# Altium integrated library TI Power Management Step-Down Regulator.IntLib: 531 symbols (part 12 of 32)
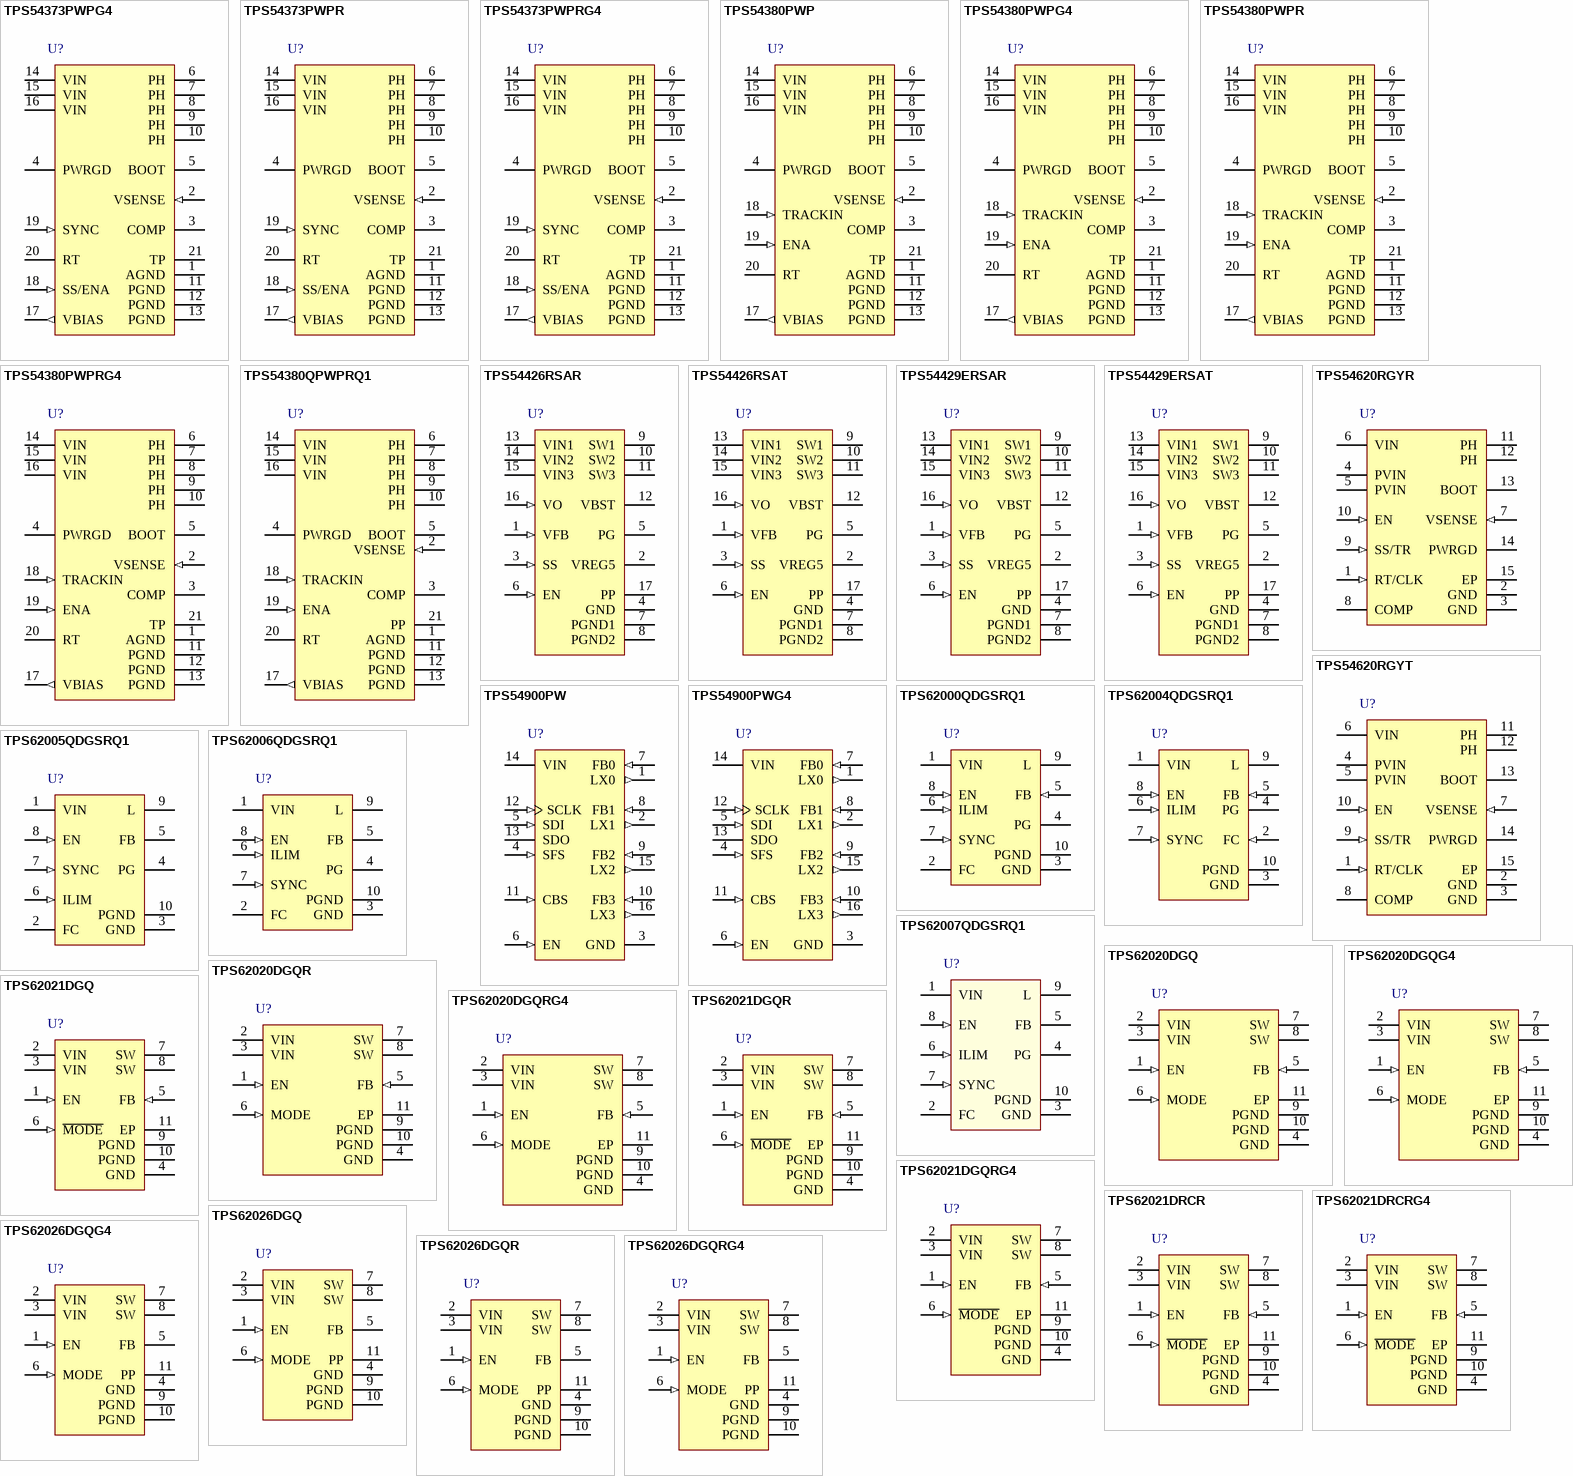
[diagram p29: symbols TPS54373PWPG4 to TPS62026DGQRG4]

## TPS54380QPWPRQ1
designator U?
Buck Step Down Regulator with 3 to 6 V Input and 0.9 to 4.5 V Output, -40 to 125 degC, 20-Pin HTSSOP (PWP), Green (RoHS & no Sb/Br); PartNumber: TPS54380QPWPRQ1; Manufacturer: Texas Instruments; Duty Cycle(Max)(%): 90; Iout(Max)(A): 3; Iq(Typ)(mA): 6.2; Rating: Automotive; Regulated Outputs(#): 1; SubFamily: Step-Down Regulator; Switch Current Limit(Typ)(A): 4; Synchronous Rectification: TRUE; Vin(Max)(V): 6; Vout(Max)(V): 4.5; Vout(Min)(V): 0.9; DatasheetVersion: SLVS836; PackageVersion: revI, May-2011; PackageReference: PWP20-3005X2005TP; PackageDescription: 20-Pin PowerPAD Plastic Small Outline 6.5 x 4.4 mm Body ,0.65 mm Pitch, Exposed Pad; Supplier 1: Digi-Key; Supplier Part Number 1: 296-23865-2-ND; Supplier 2: Digi-Key; Supplier Part Number 2: 296-23865-1-ND; Supplier 3: Digi-Key; Supplier Part Number 3: 296-23865-6-ND; Supplier 4: Mouser; Supplier Part Number 4: 595-TPS54380QPWPRQ1; Eco-Plan: Green (RoHS & no Sb/Br); Topology: Buck; Vin(Min)(V): 3; Mounting Technology: Surface Mount; Code_JEDEC: MO-153; ComponentLink1Description: Datasheet; ComponentLink1URL: http://www.ti.com/general/docs/lit/getliterature.tsp?genericPartNumber=TPS54380-Q1&fileType=pdf; ComponentLink2Description: URL Link1; ComponentLink2URL: Samples URL:http://www.ti.com/product/tps54611#samples
footprint PWP20-3005X2005TP_N (TSOP, 20-Leads, Body 6.5x4.4mm, Pitch 0.65mm, Thermal Pad 3.7x2.4 mm, IPC Medium Density)
footprint PWP20-3005X2005TP_L (TSOP, 20-Leads, Body 6.5x4.4mm, Pitch 0.65mm, Thermal Pad 3.7x2.4 mm, IPC High Density)
footprint PWP20-3005X2005TP_M (TSOP, 20-Leads, Body 6.5x4.4mm, Pitch 0.65mm, Thermal Pad 3.7x2.4 mm, IPC Low Density)
pins: 1 AGND (power) "Analog ground. Return for compensation network/output divider, slow-start capacitor, VBIAS capacitor, RT resistor. Connect PowerPAD to AGND.", 2 VSENSE (in) "Error amplifier inverting input. Connect to output voltage through compensation network/output divider.", 3 COMP "Error amplifier output. Connect frequency compensation network from COMP to VSENSE", 4 PWRGD (oc) "Power-good open-drain output. High when VSENSE >= 90% Vref, otherwise PWRGD is low.", 5 BOOT "Bootstrap output. 0.022-uF to 0.1-uF low-ESR capacitor connected from BOOT to PH generates floating drive for the high-side FET driver", 6 PH (power) "Phase output. Junction of the internal high-side and low-side power MOSFETs and output inductor", 7 PH (power) "Phase output. Junction of the internal high-side and low-side power MOSFETs and output inductor", 8 PH (power) "Phase output. Junction of the internal high-side and low-side power MOSFETs and output inductor", 9 PH (power) "Phase output. Junction of the internal high-side and low-side power MOSFETs and output inductor", 10 PH (power) "Phase output. Junction of the internal high-side and low-side power MOSFETs and output inductor", 11 PGND (power) "Power ground. High current return for the low-side driver and power MOSFET. Connect PGND with large copper are as to the input and output supply returns, and negative terminals of the input and output capacitors. A (See Datasheet)", 12 PGND (power) "Power ground. High current return for the low-side driver and power MOSFET. Connect PGND with large copper are as to the input and output supply returns, and negative terminals of the input and output capacitors. A (See Datasheet)", 13 PGND (power) "Power ground. High current return for the low-side driver and power MOSFET. Connect PGND with large copper are as to the input and output supply returns, and negative terminals of the input and output capacitors. A (See Datasheet)", 14 VIN (power) "Input supply for the power MOSFET switches and internal bias regulator. Bypass VIN pins to PGND pins close to device package with a high quality, low-ESR 10-uF ceramic capacitor.", 15 VIN (power) "Input supply for the power MOSFET switches and internal bias regulator. Bypass VIN pins to PGND pins close to device package with a high quality, low-ESR 10-uF ceramic capacitor.", 16 VIN (power) "Input supply for the power MOSFET switches and internal bias regulator. Bypass VIN pins to PGND pins close to device package with a high quality, low-ESR 10-uF ceramic capacitor.", 17 VBIAS (out) "Internal bias regulator output. Supplies regulated voltage to internal circuitry. Bypass VBIAS pin to AGND pin with a high quality, low-ESR 0.1-uF to 1.0-uF ceramic capacitor", 18 TRACKIN (in) "External reference input. High impedance input to internal reference/multiplexer and error amplifier circuits.", 19 ENA (in) "Enable input. Logic high enables oscillator, PWM control and MOSFET driver circuits. Logic low disables operation and places device in low quiescent current state.", 20 RT "Frequency setting resistor input. Connect a resistor from RT to AGND to set the switching frequency", 21 PP (power) "Exposed Thermal Pad"

## TPS54426RSAR
designator U?
Buck Step Down Regulator with 4.5 to 18 V Input and 0.76 to 5.5 V Output, -40 to 85 degC, 16-Pin QFN (RSA), Green (RoHS & no Sb/Br); PartNumber: TPS54426RSAR; Manufacturer: Texas Instruments; Duty Cycle(Max)(%): 90; Iout(Max)(A): 4; Iq(Typ)(mA): 0.85; Rating: Catalog; Regulated Outputs(#): 1; SubFamily: Step-Down Regulator; Switch Current Limit(Typ)(A): 4.5; Synchronous Rectification: TRUE; Vin(Max)(V): 18; Vout(Max)(V): 5.5; Vout(Min)(V): 0.76; DatasheetVersion: SLVSAD6C; PackageVersion: revD, Jun-2011; PackageReference: RSA16-2700X2700TP; PackageDescription: 16-Pin Plastic Quad Flatpack No-Lead 0.65 mm Pitch; Supplier 1: Digi-Key; Supplier Part Number 1: 296-28111-2-ND; Supplier 2: Digi-Key; Supplier Part Number 2: 296-28111-1-ND; Supplier 3: Digi-Key; Supplier Part Number 3: 296-28111-6-ND; Supplier 4: Newark; Supplier Part Number 4: 24T4824; Supplier 5: Mouser; Supplier Part Number 5: 595-TPS54426RSAR; Eco-Plan: Green (RoHS & no Sb/Br); Topology: Buck; Vin(Min)(V): 4.5; Mounting Technology: Surface Mount; Code_JEDEC: MO-220; ComponentLink1Description: Datasheet; ComponentLink1URL: http://www.ti.com/general/docs/lit/getliterature.tsp?genericPartNumber=TPS54426&fileType=pdf; ComponentLink2Description: URL Link1; ComponentLink2URL: Samples URL:http://www.ti.com/product/tps54426#samples
footprint RSA16-2700X2700TP (QFN, 16-Leads, Body 4x4mm, Pitch 0.65mm, Thermal Pad 2.7x2.7mm, TI Recommended)
pins: 1 VFB (in) "Converter feedback input. Connect to output voltage with feedback resistor divider.", 2 VREG5 (power) "5.5 V power supply output. A capacitor (typical 1 µF) should be connected to GND. VREG5 is not active when EN is low.", 3 SS (in) "Soft-start control. A external capacitor should be connected to GND.", 4 GND (power) "Signal ground pin.", 5 PG (oc) "Open drain power good output.", 6 EN (in) "Enable control input. EN is active high and must be pulled up to enable the device.", 7 PGND1 (power) "Ground returns for low-side MOSFET. Also serve as inputs of current comparators. Connect PGND2 PGND and GND strongly together near the IC.", 8 PGND2 (power) "Ground returns for low-side MOSFET. Also serve as inputs of current comparators. Connect PGND2 PGND and GND strongly together near the IC.", 9 SW1 (power) "Switch node connection between high-side NFET and low-side NFET. Also serve as inputs to current comparators.", 10 SW2 (power) "Switch node connection between high-side NFET and low-side NFET. Also serve as inputs to current comparators.", 11 SW3 (power) "Switch node connection between high-side NFET and low-side NFET. Also serve as inputs to current comparators.", 12 VBST "Supply input for high-side NFET gate driver (boost terminal). Connect capacitor from this pin to respective SW1, SW2 terminals. An internal PN diode is connected between VREG5 to VBST pin.", 13 VIN1 (power) "Power input and connected to high side NFET drain. Supply input for 5-V internal linear regulator for the control circuitry.", 14 VIN2 (power) "Power input and connected to high side NFET drain. Supply input for 5-V internal linear regulator for the control circuitry.", 15 VIN3 (power) "Power input and connected to high side NFET drain. Supply input for 5-V internal linear regulator for the control circuitry.", 16 VO (in) "Connect to output of converter. This terminal is used for On-Time Adjustment.", 17 PP (power) "Thermal pad of the package. Must be soldered to achieve appropriate dissipation. Should be connected to PGND."

## TPS54426RSAT
designator U?
Buck Step Down Regulator with 4.5 to 18 V Input and 0.76 to 5.5 V Output, -40 to 85 degC, 16-Pin QFN (RSA), Green (RoHS & no Sb/Br); PartNumber: TPS54426RSAT; Manufacturer: Texas Instruments; Duty Cycle(Max)(%): 90; Iout(Max)(A): 6; Iq(Typ)(mA): 0.85; Rating: Catalog; Regulated Outputs(#): 1; SubFamily: Step-Down Regulator; Switch Current Limit(Typ)(A): 4.5; Synchronous Rectification: TRUE; Vin(Max)(V): 18; Vout(Max)(V): 5.5; Vout(Min)(V): 0.76; DatasheetVersion: SLVSAD6C; PackageVersion: revD, Jun-2011; PackageReference: RSA16-2700X2700TP; PackageDescription: 16-Pin Plastic Quad Flatpack No-Lead 0.65 mm Pitch; Supplier 1: Digi-Key; Supplier Part Number 1: TPS54426RSAT-ND; Supplier 2: Mouser; Supplier Part Number 2: 595-TPS54426RSAT; Eco-Plan: Green (RoHS & no Sb/Br); Topology: Buck; Vin(Min)(V): 4.5; Mounting Technology: Surface Mount; Code_JEDEC: MO-220; ComponentLink1Description: Datasheet; ComponentLink1URL: http://www.ti.com/general/docs/lit/getliterature.tsp?genericPartNumber=TPS54426&fileType=pdf; ComponentLink2Description: URL Link1; ComponentLink2URL: Samples URL:http://www.ti.com/product/tps54611#samples
footprint RSA16-2700X2700TP (QFN, 16-Leads, Body 4x4mm, Pitch 0.65mm, Thermal Pad 2.7x2.7mm, TI Recommended)
pins: 1 VFB (in) "Converter feedback input. Connect to output voltage with feedback resistor divider.", 2 VREG5 (power) "5.5 V power supply output. A capacitor (typical 1 µF) should be connected to GND. VREG5 is not active when EN is low.", 3 SS (in) "Soft-start control. A external capacitor should be connected to GND.", 4 GND (power) "Signal ground pin.", 5 PG (oc) "Open drain power good output.", 6 EN (in) "Enable control input. EN is active high and must be pulled up to enable the device.", 7 PGND1 (power) "Ground returns for low-side MOSFET. Also serve as inputs of current comparators. Connect PGND2 PGND and GND strongly together near the IC.", 8 PGND2 (power) "Ground returns for low-side MOSFET. Also serve as inputs of current comparators. Connect PGND2 PGND and GND strongly together near the IC.", 9 SW1 (power) "Switch node connection between high-side NFET and low-side NFET. Also serve as inputs to current comparators.", 10 SW2 (power) "Switch node connection between high-side NFET and low-side NFET. Also serve as inputs to current comparators.", 11 SW3 (power) "Switch node connection between high-side NFET and low-side NFET. Also serve as inputs to current comparators.", 12 VBST "Supply input for high-side NFET gate driver (boost terminal). Connect capacitor from this pin to respective SW1, SW2 terminals. An internal PN diode is connected between VREG5 to VBST pin.", 13 VIN1 (power) "Power input and connected to high side NFET drain. Supply input for 5-V internal linear regulator for the control circuitry.", 14 VIN2 (power) "Power input and connected to high side NFET drain. Supply input for 5-V internal linear regulator for the control circuitry.", 15 VIN3 (power) "Power input and connected to high side NFET drain. Supply input for 5-V internal linear regulator for the control circuitry.", 16 VO (in) "Connect to output of converter. This terminal is used for On-Time Adjustment.", 17 PP (power) "Thermal pad of the package. Must be soldered to achieve appropriate dissipation. Should be connected to PGND."

## TPS54429ERSAR
designator U?
Buck Step Down Regulator with 7 to 18 V Input and 0.76 to 5.5 V Output, -20 to 85 degC, 16-Pin QFN (RSA), Green (RoHS & no Sb/Br); PartNumber: TPS54429ERSAR; Manufacturer: Texas Instruments; Duty Cycle(Max)(%): 98; Iout(Max)(A): 4.5; Iq(Typ)(mA): 0.6; Rating: Catalog; Regulated Outputs(#): 1; SubFamily: Step-Down Regulator; Switch Current Limit(Typ)(A): 5.3; Synchronous Rectification: TRUE; Vin(Max)(V): 18; Vin(Min)(V): 7; Vout(Max)(V): 5.5; Vout(Min)(V): 0.76; DatasheetVersion: SLVSAS0; PackageVersion: revD, Jun-2011; PackageReference: RSA16-2700X2700TP; PackageDescription: 16-Pin Plastic Quad Flatpack No-Lead 0.65 mm Pitch; Supplier 1: Digi-Key; Supplier Part Number 1: 296-28909-2-ND; Supplier 2: Digi-Key; Supplier Part Number 2: 296-28909-1-ND; Supplier 3: Digi-Key; Supplier Part Number 3: 296-28909-6-ND; Supplier 4: Mouser; Supplier Part Number 4: 595-TPS54429ERSAR; Eco-Plan: Green (RoHS & no Sb/Br); Topology: Buck; Mounting Technology: Surface Mount; Code_JEDEC: MO-220; ComponentLink1Description: Datasheet; ComponentLink1URL: http://www.ti.com/general/docs/lit/getliterature.tsp?genericPartNumber=TPS54429E&fileType=pdf; ComponentLink2Description: URL Link1; ComponentLink2URL: Samples URL:http://www.ti.com/product/tps54429e#samples
footprint RSA16-2700X2700TP (QFN, 16-Leads, Body 4x4mm, Pitch 0.65mm, Thermal Pad 2.7x2.7mm, TI Recommended)
pins: 1 VFB (in) "Converter feedback input. Connect to output voltage with feedback resistor divider", 2 VREG5 (power) "5.5V power supply output A capacitor (typical 1 uF) should be connected to GND. VREG5 is not active when EN is low.", 3 SS (in) "Soft-start control. A external capacitor should be connected to GND.", 4 GND (power) "Signal ground pin.", 5 PG (oc) "Open drain power good output.", 6 EN (in) "Enable control input. EN is active high and must be pulled up to enable the device.", 7 PGND1 (power) "Ground returns for low-side MOSFET. Also serve as inputs of current comparators. Connect PGND and GND strongly together near the IC.", 8 PGND2 (power) "Ground returns for low-side MOSFET. Also serve as inputs of current comparators. Connect PGND and GND strongly together near the IC.", 9 SW1 (power) "Switch node connection between high-side NFET and low-side NFET.Also serve as inputs to current comparators.", 10 SW2 (power) "Switch node connection between high-side NFET and low-side NFET.Also serve as inputs to current comparators.", 11 SW3 (power) "Switch node connection between high-side NFET and low-side NFET.Also serve as inputs to current comparators.", 12 VBST (power) "Supply input for high-side NFETgatedriver(boost terminnal )Connect capacitor from this pin to respective SW1,SW2 terminals.An internal PN diode is connected between VREG5 to VBST pin", 13 VIN1 (power) "Power input and connected to high side NFNT drain .Supply input for 5-V internal linear regulator for the control circuitry.", 14 VIN2 (power) "Power input and connected to high side NFNT drain .Supply input for 5-V internal linear regulator for the control circuitry.", 15 VIN3 (power) "Power input and connected to high side NFNT drain .Supply input for 5-V internal linear regulator for the control circuitry.", 16 VO (in) "Connect to output of converter. This terminal is used for On-Time Adjustment", 17 PP (power) "Thermal pad of the package. Must be soldered to achieve appropriate dissipation. Should be  connected to PGND"

## TPS54429ERSAT
designator U?
Buck Step Down Regulator with 7 to 18 V Input and 0.76 to 5.5 V Output, -20 to 85 degC, 16-Pin QFN (RSA), Green (RoHS & no Sb/Br); PartNumber: TPS54429ERSAT; Manufacturer: Texas Instruments; Duty Cycle(Max)(%): 98; Iout(Max)(A): 4.5; Iq(Typ)(mA): 0.6; Rating: Catalog; Regulated Outputs(#): 1; SubFamily: Step-Down Regulator; Switch Current Limit(Typ)(A): 5.3; Synchronous Rectification: TRUE; Vin(Max)(V): 18; Vin(Min)(V): 7; Vout(Max)(V): 5.5; Vout(Min)(V): 0.76; DatasheetVersion: SLVSAS0; PackageVersion: revD, Jun-2011; PackageReference: RSA16-2700X2700TP; PackageDescription: 16-Pin Plastic Quad Flatpack No-Lead 0.65 mm Pitch; Supplier 1: Digi-Key; Supplier Part Number 1: TPS54429ERSAT-ND; Supplier 2: Mouser; Supplier Part Number 2: 595-TPS54429ERSAT; Eco-Plan: Green (RoHS & no Sb/Br); Topology: Buck; Mounting Technology: Surface Mount; Code_JEDEC: MO-220; ComponentLink1Description: Datasheet; ComponentLink1URL: http://www.ti.com/general/docs/lit/getliterature.tsp?genericPartNumber=TPS54429E&fileType=pdf; ComponentLink2Description: URL Link1; ComponentLink2URL: Samples URL:http://www.ti.com/product/tps54611#samples
footprint RSA16-2700X2700TP (QFN, 16-Leads, Body 4x4mm, Pitch 0.65mm, Thermal Pad 2.7x2.7mm, TI Recommended)
pins: 1 VFB (in) "Converter feedback input. Connect to output voltage with feedback resistor divider", 2 VREG5 (power) "5.5V power supply output A capacitor (typical 1 uF) should be connected to GND. VREG5 is not active when EN is low.", 3 SS (in) "Soft-start control. A external capacitor should be connected to GND.", 4 GND (power) "Signal ground pin.", 5 PG (oc) "Open drain power good output.", 6 EN (in) "Enable control input. EN is active high and must be pulled up to enable the device.", 7 PGND1 (power) "Ground returns for low-side MOSFET. Also serve as inputs of current comparators. Connect PGND and GND strongly together near the IC.", 8 PGND2 (power) "Ground returns for low-side MOSFET. Also serve as inputs of current comparators. Connect PGND and GND strongly together near the IC.", 9 SW1 (power) "Switch node connection between high-side NFET and low-side NFET.Also serve as inputs to current comparators.", 10 SW2 (power) "Switch node connection between high-side NFET and low-side NFET.Also serve as inputs to current comparators.", 11 SW3 (power) "Switch node connection between high-side NFET and low-side NFET.Also serve as inputs to current comparators.", 12 VBST (power) "Supply input for high-side NFETgatedriver(boost terminnal )Connect capacitor from this pin to respective SW1,SW2 terminals.An internal PN diode is connected between VREG5 to VBST pin", 13 VIN1 (power) "Power input and connected to high side NFNT drain .Supply input for 5-V internal linear regulator for the control circuitry.", 14 VIN2 (power) "Power input and connected to high side NFNT drain .Supply input for 5-V internal linear regulator for the control circuitry.", 15 VIN3 (power) "Power input and connected to high side NFNT drain .Supply input for 5-V internal linear regulator for the control circuitry.", 16 VO (in) "Connect to output of converter. This terminal is used for On-Time Adjustment", 17 PP (power) "Thermal pad of the package. Must be soldered to achieve appropriate dissipation. Should be  connected to PGND"

## TPS54620RGYR
designator U?
Buck Step Down Regulator with 4.5 to 17 V Input and 0.8 to 15 V Output, -40 to 150 degC, 14-Pin VQFN (RGY), Green (RoHS & no Sb/Br); PartNumber: TPS54620RGYR; Manufacturer: Texas Instruments; Duty Cycle(Max)(%): 98; Iout(Max)(A): 6; Iq(Typ)(mA): 0.6; Rating: Catalog; Regulated Outputs(#): 1; SubFamily: Step-Down Regulator; Switch Current Limit(Typ)(A): 8; Synchronous Rectification: TRUE; Vin(Max)(V): 17; Vin(Min)(V): 4.5; Vout(Max)(V): 15; Vout(Min)(V): 0.8; DatasheetVersion: SLVS949C; PackageVersion: revI, Jun-2011; PackageReference: RGY14-2050X2050TP; PackageDescription: 14-Leads Plastic Quad Flatpack No-Lead, 3.5 x 3.5 x 0.9 mm Body, 0.5 mm Pitch; Supplier 1: Digi-Key; Supplier Part Number 1: 296-24554-2-ND; Supplier 2: Digi-Key; Supplier Part Number 2: 296-24554-1-ND; Supplier 3: Digi-Key; Supplier Part Number 3: 296-24554-6-ND; Supplier 4: Newark; Supplier Part Number 4: 25R0106; Supplier 5: Mouser; Supplier Part Number 5: 595-TPS54620RGYR; Eco-Plan: Green (RoHS & no Sb/Br); Topology: Buck; Mounting Technology: Surface Mount; Code_JEDEC: MO-241-BA; ComponentLink1Description: Datasheet; ComponentLink1URL: http://www.ti.com/general/docs/lit/getliterature.tsp?genericPartNumber=TPS54620&fileType=pdf; ComponentLink2Description: URL Link1; ComponentLink2URL: Samples URL:http://www.ti.com/product/tps54620#samples
footprint RGY14-2050X2050TP (QFN, 14-Leads, Body 3.5x3.5mm, Pitch 0.5mm, Thermal Pad 2.05x2.05mm, TI Recommended)
pins: 1 RT/CLK (in) "Automatically selects between RT mode and CLK mode. An external timing resistor adjusts the switching frequency of the device; In CLK mode, the device synchronizes to an external clock.", 2 GND (power) "Return for control circuitry and low-side power MOSFET.", 3 GND (power) "Return for control circuitry and low-side power MOSFET.", 4 PVIN (power) "Power input. Supplies the power switches of the power converter", 5 PVIN (power) "Power input. Supplies the power switches of the power converter", 6 VIN (power) "Supplies the control circuitry of the power converter.", 7 VSENSE (in) "Inverting input of the gm error amplifier", 8 COMP "Error amplifier output, and input to the output switch current comparator. Connect frequency compensation to this pin.", 9 SS/TR (in) "Slow-start and tracking. An external capacitor connected to this pin sets the internal voltage reference rise time. The voltage on this pin overrides the internal reference. It can be used for tracking and sequencing.", 10 EN (in) "Enable pin. Float to enable. Adjust the input undervoltage lockout with two resistors.", 11 PH (power) "The switch node", 12 PH (power) "The switch node", 13 BOOT "A bootstrap cap is required between BOOT and PH. The voltage on this cap carries the gate drive voltage for the high-side MOSFET", 14 PWRGD (oc) "Power Good fault pin. Asserts low if output voltage is low due to thermal shutdown, dropout, over-voltage, EN shutdown or during slow start", 15 EP (power) "Thermal pad of the package and signal ground and it must be soldered down for proper operation"

## TPS54620RGYT
designator U?
Buck Step Down Regulator with 4.5 to 17 V Input and 0.8 to 15 V Output, -40 to 150 degC, 14-Pin VQFN (RGY), Green (RoHS & no Sb/Br); PartNumber: TPS54620RGYT; Manufacturer: Texas Instruments; Duty Cycle(Max)(%): 98; Iout(Max)(A): 6; Iq(Typ)(mA): 0.6; Rating: Catalog; Regulated Outputs(#): 1; SubFamily: Step-Down Regulator; Switch Current Limit(Typ)(A): 8; Synchronous Rectification: TRUE; Vin(Max)(V): 17; Vin(Min)(V): 4.5; Vout(Max)(V): 15; Vout(Min)(V): 0.8; DatasheetVersion: SLVS949C; PackageVersion: revI, Jun-2011; PackageReference: RGY14-2050X2050TP; PackageDescription: 14-Leads Plastic Quad Flatpack No-Lead, 3.5 x 3.5 x 0.9 mm Body, 0.5 mm Pitch; Supplier 1: Digi-Key; Supplier Part Number 1: 296-24568-2-ND; Supplier 2: Digi-Key; Supplier Part Number 2: 296-24568-1-ND; Supplier 3: Digi-Key; Supplier Part Number 3: 296-24568-6-ND; Supplier 4: Farnell; Supplier Part Number 4: 1735592RL; Supplier 5: Farnell; Supplier Part Number 5: 1735592; Supplier 6: Newark; Supplier Part Number 6: 10R6963; Supplier 7: Mouser; Supplier Part Number 7: 595-TPS54620RGYT; Eco-Plan: Green (RoHS & no Sb/Br); Topology: Buck; Mounting Technology: Surface Mount; Code_JEDEC: MO-241-BA; ComponentLink1Description: Datasheet; ComponentLink1URL: http://www.ti.com/general/docs/lit/getliterature.tsp?genericPartNumber=TPS54620&fileType=pdf; ComponentLink2Description: URL Link1; ComponentLink2URL: Samples URL:http://www.ti.com/product/tps54620#samples
footprint RGY14-2050X2050TP (QFN, 14-Leads, Body 3.5x3.5mm, Pitch 0.5mm, Thermal Pad 2.05x2.05mm, TI Recommended)
pins: 1 RT/CLK (in) "Automatically selects between RT mode and CLK mode. An external timing resistor adjusts the switching frequency of the device; In CLK mode, the device synchronizes to an external clock.", 2 GND (power) "Return for control circuitry and low-side power MOSFET.", 3 GND (power) "Return for control circuitry and low-side power MOSFET.", 4 PVIN (power) "Power input. Supplies the power switches of the power converter", 5 PVIN (power) "Power input. Supplies the power switches of the power converter", 6 VIN (power) "Supplies the control circuitry of the power converter.", 7 VSENSE (in) "Inverting input of the gm error amplifier", 8 COMP "Error amplifier output, and input to the output switch current comparator. Connect frequency compensation to this pin.", 9 SS/TR (in) "Slow-start and tracking. An external capacitor connected to this pin sets the internal voltage reference rise time. The voltage on this pin overrides the internal reference. It can be used for tracking and sequencing.", 10 EN (in) "Enable pin. Float to enable. Adjust the input undervoltage lockout with two resistors.", 11 PH (power) "The switch node", 12 PH (power) "The switch node", 13 BOOT "A bootstrap cap is required between BOOT and PH. The voltage on this cap carries the gate drive voltage for the high-side MOSFET", 14 PWRGD (oc) "Power Good fault pin. Asserts low if output voltage is low due to thermal shutdown, dropout, over-voltage, EN shutdown or during slow start", 15 EP (power) "Thermal pad of the package and signal ground and it must be soldered down for proper operation"

## TPS54900PW
designator U?
Buck Step Down Regulator with 14.25 to 16 V Input and 7.5 to 13.1 V Output, -40 to 85 degC, 16-Pin TSSOP (PW); PartNumber: TPS54900PW; Manufacturer: Texas Instruments; Duty Cycle(Max)(%): 90; Iout(Max)(A): 0.1; Iq(Typ)(mA): 0.7; Rating: Catalog; Regulated Outputs(#): 4; SubFamily: Step-Down Regulator; Switch Current Limit(Typ)(A): 0.25; Vin(Max)(V): 16; Vin(Min)(V): 14.25; Vout(Max)(V): 13.1; Vout(Min)(V): 7.5; DatasheetVersion: SLVS405; PackageVersion: revG, Feb-2011; PackageReference: PW16; PackageDescription: 16-Pin Plastic Thin Small Outline Package 5 x 4.4 mm Body ,0.65 mm Pitch; Supplier 1: Digi-Key; Supplier Part Number 1: 296-13408-5-ND; Supplier 2: Newark; Supplier Part Number 2: 77C0525; Supplier 3: Mouser; Supplier Part Number 3: 595-TPS54900PW; Iout2(Max)(A): 0.1; Topology: Buck; Vout2(Max)(V): 13.1; Vout2(Min)(V): 7.5; Mounting Technology: Surface Mount; Code_JEDEC: MO-153; ComponentLink1Description: Datasheet; ComponentLink1URL: http://www.ti.com/general/docs/lit/getliterature.tsp?genericPartNumber=TPS54900&fileType=pdf; ComponentLink2Description: URL Link1; ComponentLink2URL: Samples URL:http://www.ti.com/product/tps54900#samples
footprint PW16_N (TSOP, 16-Leads, Body 5x4.4mm, Pitch 0.65mm, IPC Medium Density)
footprint PW16_L (TSOP, 16-Leads, Body 5x4.4mm, Pitch 0.65mm, IPC High Density)
footprint PW16_M (TSOP, 16-Leads, Body 5x4.4mm, Pitch 0.65mm, IPC Low Density)
pins: 1 LX0 (out) "Channel 0 switch output", 2 LX1 (out) "Channel 1 switch output", 3 GND (power) "Ground", 4 SFS (in) "Frame sync input", 5 SDI (in) "Serial data in", 6 EN (in) "Enable", 7 FB0 (in) "Channel 0 feedback input", 8 FB1 (in) "Channel 1 feedback input", 9 FB2 (in) "Channel 2 feedback input", 10 FB3 (in) "Channel 3 feedback input", 11 CBS (in) "Channel bank select", 12 SCLK (in) "Serial clock input", 13 SDO (oc) "Serial data out", 14 VIN (power) "Input supply voltage", 15 LX2 (out) "Channel 2 switch output", 16 LX3 (out) "Channel 3 switch output"

## TPS54900PWG4
designator U?
Buck Step Down Regulator with 14.25 to 16 V Input and 7.5 to 13.1 V Output, -40 to 85 degC, 16-Pin TSSOP (PW); PartNumber: TPS54900PWG4; Manufacturer: Texas Instruments; Duty Cycle(Max)(%): 90; Iout(Max)(A): 0.1; Iq(Typ)(mA): 0.7; Rating: Catalog; Regulated Outputs(#): 4; SubFamily: Step-Down Regulator; Switch Current Limit(Typ)(A): 0.25; Vin(Max)(V): 16; Vin(Min)(V): 14.25; Vout(Max)(V): 13.1; Vout(Min)(V): 7.5; DatasheetVersion: SLVS405; PackageVersion: revG, Feb-2011; PackageReference: PW16; PackageDescription: 16-Pin Plastic Thin Small Outline Package 5 x 4.4 mm Body ,0.65 mm Pitch; Supplier 1: Digi-Key; Supplier Part Number 1: TPS54900PWG4-ND; Supplier 2: Newark; Supplier Part Number 2: 85K1700; Supplier 3: Mouser; Supplier Part Number 3: 595-TPS54900PWG4; Iout2(Max)(A): 0.1; Topology: Buck; Vout2(Max)(V): 13.1; Vout2(Min)(V): 7.5; Mounting Technology: Surface Mount; Code_JEDEC: MO-153; ComponentLink1Description: Datasheet; ComponentLink1URL: http://www.ti.com/general/docs/lit/getliterature.tsp?genericPartNumber=TPS54900&fileType=pdf; ComponentLink2Description: URL Link1; ComponentLink2URL: Samples URL:http://www.ti.com/product/tps54611#samples
footprint PW16_N (TSOP, 16-Leads, Body 5x4.4mm, Pitch 0.65mm, IPC Medium Density)
footprint PW16_L (TSOP, 16-Leads, Body 5x4.4mm, Pitch 0.65mm, IPC High Density)
footprint PW16_M (TSOP, 16-Leads, Body 5x4.4mm, Pitch 0.65mm, IPC Low Density)
pins: 1 LX0 (out) "Channel 0 switch output", 2 LX1 (out) "Channel 1 switch output", 3 GND (power) "Ground", 4 SFS (in) "Frame sync input", 5 SDI (in) "Serial data in", 6 EN (in) "Enable", 7 FB0 (in) "Channel 0 feedback input", 8 FB1 (in) "Channel 1 feedback input", 9 FB2 (in) "Channel 2 feedback input", 10 FB3 (in) "Channel 3 feedback input", 11 CBS (in) "Channel bank select", 12 SCLK (in) "Serial clock input", 13 SDO (oc) "Serial data out", 14 VIN (power) "Input supply voltage", 15 LX2 (out) "Channel 2 switch output", 16 LX3 (out) "Channel 3 switch output"

## TPS62000QDGSRQ1
designator U?
Buck Step Down Regulator with 2 to 5.5 V Input and 0.9 to 5 V Output, -40 to 125 degC, 10-Pin MSOP (DGS), Green (RoHS & no Sb/Br); PartNumber: TPS62000QDGSRQ1; Manufacturer: Texas Instruments; Duty Cycle(Max)(%): 100; Iout(Max)(A): 0.6; Iq(Typ)(mA): 0.05; Rating: Automotive; Regulated Outputs(#): 1; SubFamily: Step-Down Regulator; Switch Current Limit(Typ)(A): 1.6; Synchronous Rectification: TRUE; Vin(Max)(V): 5.5; Vin(Min)(V): 2; Vout(Max)(V): 5; Vout(Min)(V): 0.9; DatasheetVersion: SGLS243A; PackageVersion: revC, Feb-2004; PackageReference: DGS10; PackageDescription: 10-Pin Thin Shrink Small Outline Package 0.5 mm Pitch; Supplier 1: Digi-Key; Supplier Part Number 1: 296-23767-2-ND; Supplier 2: Digi-Key; Supplier Part Number 2: 296-23767-1-ND; Supplier 3: Digi-Key; Supplier Part Number 3: 296-23767-6-ND; Supplier 4: Newark; Supplier Part Number 4: 10J9781; Supplier 5: Mouser; Supplier Part Number 5: 595-TPS62000QDGSRQ1; Eco-Plan: Green (RoHS & no Sb/Br); Topology: Buck; Mounting Technology: Surface Mount; Code_JEDEC: MO-187-BA; ComponentLink1Description: Datasheet; ComponentLink1URL: http://www.ti.com/general/docs/lit/getliterature.tsp?genericPartNumber=TPS62000-Q1&fileType=pdf; ComponentLink2Description: URL Link1; ComponentLink2URL: Samples URL:http://www.ti.com/product/tps54611#samples
footprint DGS10_N (TSSOP, 10-Leads, Body 3x3mm, Pitch 0.5mm, IPC Medium Density)
footprint DGS10_L (TSSOP, 10-Leads, Body 3x3mm, Pitch 0.5mm, IPC High Density)
footprint DGS10_M (TSSOP, 10-Leads, Body 3x3mm, Pitch 0.5mm, IPC Low Density)
pins: 1 VIN (power) "Supply voltage input", 2 FC "Supply bypass pin. A 0.1-µF coupling capacitor should be connected as close as possible to this pin for good high frequency input voltage supply filtering.", 3 GND (power) "Ground", 4 PG (hiz) "Power good comparator output. This is an open-drain output. A pullup resistor should be connected between PG and VO. The output goes active high when the output voltage is greater than 92% of the nominal value.", 5 FB (in) "Feedback pin for the fixed output voltage option. For the adjustable version, an external resistive divider is connected to FB. The internal voltage divider is disabled for the adjustable version.", 6 ILIM (in) "Switch current limit. Connect ILIM to GND to set the switch current limit to typically 600 mA, or connect this pin to VIN to set the current limit to typically 1200 mA.", 7 SYNC (in) "Input for synchronization to external clock signal. Synchronizes the converter switching frequency to an external clock signal with CMOS level: SYNC = High: Low-noise mode enabled, fixed frequency PWM operation is forced (See Datasheet)", 8 EN (in) "Enable. A logic high enables the converter and a logic low forces the device into shutdown mode reducing the supply current to less than 1 µA.", 9 L (power) "Connect the inductor to this pin. L is the switch pin connected to the drain of the internal power MOSFETS.", 10 PGND (power) "Power ground. Connect all power grounds to PGND."

## TPS62004QDGSRQ1
designator U?
Buck Step Down Regulator with 2 to 5.5 V Input and 1.5 V Output, -40 to 125 degC, 10-Pin MSOP (DGS), Green (RoHS & no Sb/Br); PartNumber: TPS62004QDGSRQ1; Manufacturer: Texas Instruments; Duty Cycle(Max)(%): 100; Iout(Max)(A): 0.6; Iq(Typ)(mA): 0.05; Preset Vout(V): 1.5; Rating: Automotive; Regulated Outputs(#): 1; SubFamily: Step-Down Regulator; Switch Current Limit(Typ)(A): 1.6; Synchronous Rectification: TRUE; Vin(Max)(V): 5.5; Vin(Min)(V): 2; DatasheetVersion: SGLS243A; PackageVersion: revC, Feb-2004; PackageReference: DGS10; PackageDescription: 10-Pin Thin Shrink Small Outline Package 0.5 mm Pitch; Supplier 1: Digi-Key; Supplier Part Number 1: 296-29740-2-ND; Supplier 2: Digi-Key; Supplier Part Number 2: 296-29740-1-ND; Supplier 3: Digi-Key; Supplier Part Number 3: 296-29740-6-ND; Supplier 4: Newark; Supplier Part Number 4: 10J9782; Supplier 5: Mouser; Supplier Part Number 5: 595-TPS62004QDGSRQ1; Eco-Plan: Green (RoHS & no Sb/Br); Topology: Buck; Vout(Max)(V): 1.5; Vout(Min)(V): 1.5; Mounting Technology: Surface Mount; Code_JEDEC: MO-187-BA; ComponentLink1Description: Datasheet; ComponentLink1URL: http://www.ti.com/general/docs/lit/getliterature.tsp?genericPartNumber=TPS62004-Q1&fileType=pdf; ComponentLink2Description: URL Link1; ComponentLink2URL: Samples URL:http://www.ti.com/product/tps54611#samples
footprint DGS10_N (TSSOP, 10-Leads, Body 3x3mm, Pitch 0.5mm, IPC Medium Density)
footprint DGS10_L (TSSOP, 10-Leads, Body 3x3mm, Pitch 0.5mm, IPC High Density)
footprint DGS10_M (TSSOP, 10-Leads, Body 3x3mm, Pitch 0.5mm, IPC Low Density)
pins: 1 VIN (power) "Supply voltage input", 2 FC (in) "Supply bypass pin. A 0.1-uF coupling capacitor should be connected as close as possible to this pin for good high frequency input voltage supply filtering.", 3 GND (power) "Ground", 4 PG (hiz) "Power good comparator output. This is an open-drain output. A pullup resistor should be connected between PG and VO. The output goes active high when the output voltage is greater than 92% of the nominal value.", 5 FB (in) "Feedback pin for the fixed output voltage option. For the adjustable version, an external resistive divider is connected to FB. The internal voltage divider is disabled for the adjustable version.", 6 ILIM (in) "Switch current limit. Connect ILIM to GND to set the switch current limit to typically 600 mA, or connect this pin to VIN to set the current limit to typically 1200 mA.", 7 SYNC (in) "Input for synchronization to external clock signal. Synchronizes the converter switching frequency to an external clock signal with CMOS level:SYNC = High: Low-noise mode enabled, fixed frequency PWM operation is forced;SYNC (See Datasheet)", 8 EN (in) "Enable. A logic high enables the converter and a logic low forces the device into shutdown mode reducing the supply current to less than 1 uA.", 9 L (power) "Connect the inductor to this pin. L is the switch pin connected to the drain of the internal power MOSFETS.", 10 PGND (power) "Power ground. Connect all power grounds to PGND."

## TPS62005QDGSRQ1
designator U?
Buck Step Down Regulator with 2 to 5.5 V Input and 1.8 V Output, -40 to 125 degC, 10-Pin MSOP (DGS), Green (RoHS & no Sb/Br); PartNumber: TPS62005QDGSRQ1; Manufacturer: Texas Instruments; Duty Cycle(Max)(%): 100; Iout(Max)(A): 0.6; Iq(Typ)(mA): 0.05; Preset Vout(V): 1.8; Rating: Automotive; Regulated Outputs(#): 1; SubFamily: Step-Down Regulator; Switch Current Limit(Typ)(A): 1.6; Synchronous Rectification: TRUE; Vin(Max)(V): 5.5; Vin(Min)(V): 2; DatasheetVersion: SGLS243A; PackageVersion: revC, Feb-2004; PackageReference: DGS10; PackageDescription: 10-Pin Thin Shrink Small Outline Package 0.5 mm Pitch; Supplier 1: Digi-Key; Supplier Part Number 1: 296-19427-2-ND; Supplier 2: Digi-Key; Supplier Part Number 2: 296-19427-1-ND; Supplier 3: Newark; Supplier Part Number 3: 10J9783; Supplier 4: Mouser; Supplier Part Number 4: 595-TPS62005QDGSRQ1; Eco-Plan: Green (RoHS & no Sb/Br); Topology: Buck; Vout(Max)(V): 1.8; Vout(Min)(V): 1.8; Mounting Technology: Surface Mount; Code_JEDEC: MO-187-BA; ComponentLink1Description: Datasheet; ComponentLink1URL: http://www.ti.com/general/docs/lit/getliterature.tsp?genericPartNumber=TPS62005-Q1&fileType=pdf; ComponentLink2Description: URL Link1; ComponentLink2URL: Samples URL:http://www.ti.com/product/tps54611#samples
footprint DGS10_N (TSSOP, 10-Leads, Body 3x3mm, Pitch 0.5mm, IPC Medium Density)
footprint DGS10_L (TSSOP, 10-Leads, Body 3x3mm, Pitch 0.5mm, IPC High Density)
footprint DGS10_M (TSSOP, 10-Leads, Body 3x3mm, Pitch 0.5mm, IPC Low Density)
pins: 1 VIN (power) "Supply voltage input", 2 FC "Supply bypass pin. A 0.1-uF coupling capacitor should be connected as close as possible to this pin for good high frequency input voltage supply filtering.", 3 GND (power) "Ground", 4 PG (hiz) "Power good comparator output. This is an open-drain output. A pullup resistor should be connected between PG and VO. The output goes active high when the output voltage is greater than 92% of the nominal value.", 5 FB "Feedback pin for the fixed output voltage option. For the adjustable version, an external resistive divider is connected to FB. The internal voltage divider is disabled for the adjustable version.", 6 ILIM (in) "Switch current limit. Connect ILIM to GND to set the switch current limit to typically 600 mA, or connect this pin to VIN to set the current limit to typically 1200 mA.", 7 SYNC (in) "Input for synchronization to external clock signal. Synchronizes the converter switching frequency to an external clock signal with CMOS level:SYNC = High: Low-noise mode enabled, fixed frequency PWM operation is forced;SYNC (See Datasheet)", 8 EN (in) "Enable. A logic high enables the converter and a logic low forces the device into shutdown mode reducing the supply current to less than 1 uA.", 9 L (power) "Connect the inductor to this pin. L is the switch pin connected to the drain of the internal power MOSFETS.", 10 PGND (power) "Power ground. Connect all power grounds to PGND."

## TPS62006QDGSRQ1
designator U?
Buck Step Down Regulator with 2 to 5.5 V Input and 2.5 V Output, -40 to 125 degC, 10-Pin MSOP (DGS), Green (RoHS & no Sb/Br); PartNumber: TPS62006QDGSRQ1; Manufacturer: Texas Instruments; Duty Cycle(Max)(%): 100; Iout(Max)(A): 0.6; Iq(Typ)(mA): 0.05; Preset Vout(V): 2.5; Rating: Automotive; Regulated Outputs(#): 1; SubFamily: Step-Down Regulator; Switch Current Limit(Typ)(A): 1.6; Synchronous Rectification: TRUE; Vin(Max)(V): 5.5; Vin(Min)(V): 2; DatasheetVersion: SGLS243A; PackageVersion: revC, Feb-2004; PackageReference: DGS10; PackageDescription: 10-Pin Thin Shrink Small Outline Package 0.5 mm Pitch; Supplier 1: Digi-Key; Supplier Part Number 1: TPS62006QDGSRQ1-ND; Supplier 2: Newark; Supplier Part Number 2: 10J9784; Supplier 3: Mouser; Supplier Part Number 3: 595-TPS62006QDGSRQ1; Eco-Plan: Green (RoHS & no Sb/Br); Topology: Buck; Vout(Max)(V): 2.5; Vout(Min)(V): 2.5; Mounting Technology: Surface Mount; Code_JEDEC: MO-187-BA; ComponentLink1Description: Datasheet; ComponentLink1URL: http://www.ti.com/general/docs/lit/getliterature.tsp?genericPartNumber=TPS62006-Q1&fileType=pdf; ComponentLink2Description: URL Link1; ComponentLink2URL: Samples URL:http://www.ti.com/product/tps54611#samples
footprint DGS10_N (TSSOP, 10-Leads, Body 3x3mm, Pitch 0.5mm, IPC Medium Density)
footprint DGS10_L (TSSOP, 10-Leads, Body 3x3mm, Pitch 0.5mm, IPC High Density)
footprint DGS10_M (TSSOP, 10-Leads, Body 3x3mm, Pitch 0.5mm, IPC Low Density)
pins: 1 VIN (power) "Supply voltage input", 2 FC "Supply bypass pin. A 0.1-uF coupling capacitor should be connected as close as possible to this pin for good high frequency input voltage supply filtering.", 3 GND (power) "Ground", 4 PG (hiz) "Power good comparator output. This is an open-drain output. A pullup resistor should be connected between PG and VO. The output goes active high when the output voltage is greater than 92% of the nominal value.", 5 FB "Feedback pin for the fixed output voltage option. For the adjustable version, an external resistive divider is connected to FB. The internal voltage divider is disabled for the adjustable version.", 6 ILIM (in) "Switch current limit. Connect ILIM to GND to set the switch current limit to typically 600 mA, or connect this pin to VIN to set the current limit to typically 1200 mA.", 7 SYNC (in) "Input for synchronization to external clock signal. Synchronizes the converter switching frequency to an external clock signal with CMOS level:SYNC = High: Low-noise mode enabled, fixed frequency PWM operation is forced;SYNC (See Datasheet)", 8 EN (in) "Enable. A logic high enables the converter and a logic low forces the device into shutdown mode reducing the supply current to less than 1 uA.", 9 L (power) "Connect the inductor to this pin. L is the switch pin connected to the drain of the internal power MOSFETS.", 10 PGND (power) "Power ground. Connect all power grounds to PGND."

## TPS62007QDGSRQ1
designator U?
Buck Step Down Regulator with 2 to 5.5 V Input and 3.3 V Output, -40 to 125 degC, 10-Pin MSOP (DGS), Green (RoHS & no Sb/Br); PartNumber: TPS62007QDGSRQ1; Manufacturer: Texas Instruments; Duty Cycle(Max)(%): 100; Iout(Max)(A): 0.6; Iq(Typ)(mA): 0.05; Preset Vout(V): 3.3; Rating: Automotive; Regulated Outputs(#): 1; SubFamily: Step-Down Regulator; Switch Current Limit(Typ)(A): 1.6; Synchronous Rectification: TRUE; Vin(Max)(V): 5.5; Vin(Min)(V): 2; DatasheetVersion: SGLS243A; PackageVersion: revC, Feb-2004; PackageReference: DGS10; PackageDescription: 10-Pin Thin Shrink Small Outline Package 0.5 mm Pitch; Supplier 1: Digi-Key; Supplier Part Number 1: 296-27188-2-ND; Supplier 2: Digi-Key; Supplier Part Number 2: 296-27188-1-ND; Supplier 3: Digi-Key; Supplier Part Number 3: 296-27188-6-ND; Supplier 4: Newark; Supplier Part Number 4: 10J9785; Supplier 5: Mouser; Supplier Part Number 5: 595-TPS62007QDGSRQ1; Eco-Plan: Green (RoHS & no Sb/Br); Topology: Buck; Vout(Max)(V): 3.3; Vout(Min)(V): 3.3; Mounting Technology: Surface Mount; Code_JEDEC: MO-187-BA; ComponentLink1Description: Datasheet; ComponentLink1URL: http://www.ti.com/general/docs/lit/getliterature.tsp?genericPartNumber=TPS62007-Q1&fileType=pdf; ComponentLink2Description: URL Link1; ComponentLink2URL: Samples URL:http://www.ti.com/product/tps54611#samples
footprint DGS10_N (TSSOP, 10-Leads, Body 3x3mm, Pitch 0.5mm, IPC Medium Density)
footprint DGS10_L (TSSOP, 10-Leads, Body 3x3mm, Pitch 0.5mm, IPC High Density)
footprint DGS10_M (TSSOP, 10-Leads, Body 3x3mm, Pitch 0.5mm, IPC Low Density)
pins: 1 VIN (power) "Supply voltage input", 2 FC "Supply bypass pin. A 0.1-uF coupling capacitor should be connected as close as possible to this pin for good high frequency input voltage supply filtering.", 3 GND (power) "Ground", 4 PG (hiz) "Power good comparator output. This is an open-drain output. A pullup resistor should be connected between PG and VO. The output goes active high when the output voltage is greater than 92% of the nominal value.", 5 FB "Feedback pin for the fixed output voltage option. For the adjustable version, an external resistive divider is connected to FB. The internal voltage divider is disabled for the adjustable version.", 6 ILIM (in) "Switch current limit. Connect ILIM to GND to set the switch current limit to typically 600 mA, or connect this pin to VIN to set the current limit to typically 1200 mA.", 7 SYNC (in) "Input for synchronization to external clock signal. Synchronizes the converter switching frequency to an external clock signal with CMOS level:SYNC = High: Low-noise mode enabled, fixed frequency PWM operation is forced;SYNC (See Datasheet)", 8 EN (in) "Enable. A logic high enables the converter and a logic low forces the device into shutdown mode reducing the supply current to less than 1 uA.", 9 L (power) "Connect the inductor to this pin. L is the switch pin connected to the drain of the internal power MOSFETS.", 10 PGND (power) "Power ground. Connect all power grounds to PGND."

## TPS62020DGQ
designator U?
Buck Adjustable Regulator with 2.5 to 6 V Input and 0.7 to 6 V Output, -40 to 85 degC, 10-Pin MSOP-PowerPAD (DGQ), Green (RoHS & no Sb/Br); PartNumber: TPS62020DGQ; Manufacturer: Texas Instruments; Duty Cycle(Max)(%): 100; Iout(Max)(A): 0.6; Iq(Typ)(mA): 0.018; Rating: Catalog; Regulated Outputs(#): 1; SubFamily: Step-Down Regulator; Switch Current Limit(Typ)(A): 1.15; Vin(Max)(V): 6; Vin(Min)(V): 2.5; Vout(Min)(V): 0.7; DatasheetVersion: SLVS076C; PackageVersion: revF, Nov-2011; PackageReference: DGQ10-1675X1445TP; PackageDescription: 10-Pin PowerPAD Plastic Small Outline 0.5 mm Pitch, Exposed Pad; Supplier 1: Digi-Key; Supplier Part Number 1: 296-34632-5-ND; Supplier 2: Newark; Supplier Part Number 2: 73H4655; Supplier 3: Mouser; Supplier Part Number 3: 595-TPS62020DGQ; Eco-Plan: Green (RoHS & no Sb/Br); Topology: Buck; Vout(Max)(V): 6; Mounting Technology: Surface Mount; Code_JEDEC: MO-187-BA-T; ComponentLink1Description: Datasheet; ComponentLink1URL: http://www.ti.com/general/docs/lit/getliterature.tsp?genericPartNumber=TPS62020&fileType=pdf; ComponentLink2Description: URL Link1; ComponentLink2URL: Samples URL:http://www.ti.com/product/tps62020#samples
footprint DGQ10-1675X1445TP_N (TSSOP, 10-Leads, Body 3x3mm, Pitch 0.5mm, Thermal Pad 1.88x1.57mm, IPC Medium Density)
footprint DGQ10-1675X1445TP_L (TSSOP, 10-Leads, Body 3x3mm, Pitch 0.5mm, Thermal Pad 1.88x1.57mm, IPC High Density)
footprint DGQ10-1675X1445TP_M (TSSOP, 10-Leads, Body 3x3mm, Pitch 0.5mm, Thermal Pad 1.88x1.57mm, IPC Low Density)
pins: 1 EN (in) "Enable. Pulling EN to ground forces the device into shutdown mode. Pulling EN to VI enables the device. EN should not be left floating and must be terminated.", 2 VIN (power) "Supply voltage input", 3 VIN (power) "Supply voltage input", 4 GND (power) "Analog ground", 5 FB (in) "Feedback. Connect an external resistor divider to this pin. If a fixed-output-voltage device is ued, connect FB directly to the output.", 6 MODE (in) "The difference between TPS6202x and TPS62021 is the logic level of the MODE pin. The TPS62021 has an active-low MODE pin. The TPS6202x is forced into fixed-frequency PWM mode by pulling the MODE pin high. Pulling the MODE (See Datasheet)", 7 SW (power) "This is the switch pin of the converter and connected to the drain of the internal power MOSFETs", 8 SW (power) "This is the switch pin of the converter and connected to the drain of the internal power MOSFETs", 9 PGND (power) "Power ground", 10 PGND (power) "Power ground", 11 EP (power) "Exposed Thermal Pad"

## TPS62020DGQG4
designator U?
Buck Adjustable Regulator with 2.5 to 6 V Input and 0.7 to 6 V Output, -40 to 85 degC, 10-Pin MSOP-PowerPAD (DGQ), Green (RoHS & no Sb/Br); PartNumber: TPS62020DGQG4; Manufacturer: Texas Instruments; Duty Cycle(Max)(%): 100; Iout(Max)(A): 0.6; Iq(Typ)(mA): 0.018; Rating: Catalog; Regulated Outputs(#): 1; SubFamily: Step-Down Regulator; Switch Current Limit(Typ)(A): 1.15; Vin(Max)(V): 6; Vin(Min)(V): 2.5; Vout(Min)(V): 0.7; DatasheetVersion: SLVS076C; PackageVersion: revF, Nov-2011; PackageReference: DGQ10-1675X1445TP; PackageDescription: 10-Pin PowerPAD Plastic Small Outline 0.5 mm Pitch, Exposed Pad; Supplier 1: Digi-Key; Supplier Part Number 1: TPS62020DGQG4-ND; Supplier 2: Newark; Supplier Part Number 2: 67K8645; Supplier 3: Mouser; Supplier Part Number 3: 595-TPS62020DGQG4; Eco-Plan: Green (RoHS & no Sb/Br); Topology: Buck; Vout(Max)(V): 6; Mounting Technology: Surface Mount; Code_JEDEC: MO-187-BA-T; ComponentLink1Description: Datasheet; ComponentLink1URL: http://www.ti.com/general/docs/lit/getliterature.tsp?genericPartNumber=TPS62020&fileType=pdf; ComponentLink2Description: URL Link1; ComponentLink2URL: Samples URL:http://www.ti.com/product/tps62020#samples
footprint DGQ10-1675X1445TP_N (TSSOP, 10-Leads, Body 3x3mm, Pitch 0.5mm, Thermal Pad 1.88x1.57mm, IPC Medium Density)
footprint DGQ10-1675X1445TP_L (TSSOP, 10-Leads, Body 3x3mm, Pitch 0.5mm, Thermal Pad 1.88x1.57mm, IPC High Density)
footprint DGQ10-1675X1445TP_M (TSSOP, 10-Leads, Body 3x3mm, Pitch 0.5mm, Thermal Pad 1.88x1.57mm, IPC Low Density)
pins: 1 EN (in) "Enable. Pulling EN to ground forces the device into shutdown mode. Pulling EN to VI enables the device. EN should not be left floating and must be terminated.", 2 VIN (power) "Supply voltage input", 3 VIN (power) "Supply voltage input", 4 GND (power) "Analog ground", 5 FB (in) "Feedback. Connect an external resistor divider to this pin. If a fixed-output-voltage device is ued, connect FB directly to the output.", 6 MODE (in) "The difference between TPS6202x and TPS62021 is the logic level of the MODE pin. The TPS62021 has an active-low MODE pin. The TPS6202x is forced into fixed-frequency PWM mode by pulling the MODE pin high. Pulling the MODE (See Datasheet)", 7 SW (power) "This is the switch pin of the converter and connected to the drain of the internal power MOSFETs", 8 SW (power) "This is the switch pin of the converter and connected to the drain of the internal power MOSFETs", 9 PGND (power) "Power ground", 10 PGND (power) "Power ground", 11 EP (power) "Exposed Thermal Pad"